# EAGLE library part DX07P024AJ1R1500 (library DX07P024AJ1R1500)
Cut Tape - Usb Type c Slim Plug
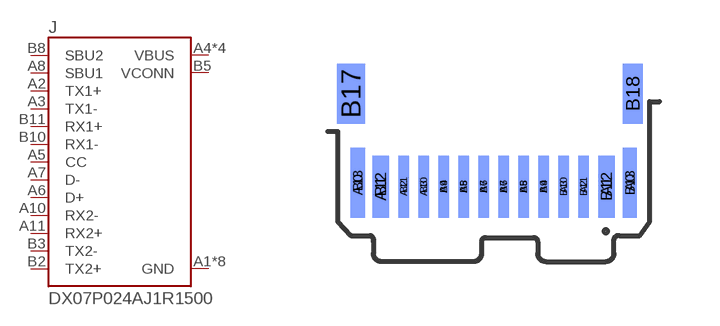
[diagram p0: symbol with the pads of JAE_DX07P024AJ1R1500; footprint JAE_DX07P024AJ1R1500]

Designator prefix J

## DX07P024AJ1R1500 (DESCRIPTION: Cut Tape - Usb Type c Slim Plug; DIGI-KEY_PART_NUMBER: 670-2868-1-ND; DIGI-KEY_PURCHASE_URL: https://www.digikey.com/product-detail/en/jae-electronics/DX07P024AJ1R1500/670-2868-1-ND/6003057?utm_source=snapeda&utm_medium=aggregator&utm_campaign=symbol; MF: JAE Electronics; MP: DX07P024AJ1R1500; PACKAGE: None)  [JAE_DX07P024AJ1R1500]
A1  GND  pwr
A2  TX1+
A3  TX1-
A4  VBUS  pwr
A5  CC
A6  D+
A7  D-
A8  SBU1
A9  VBUS  pwr
A10  RX2-
A11  RX2+
A12  GND  pwr
B0  GND  pwr
B1  GND  pwr
B2  TX2+
B3  TX2-
B4  VBUS  pwr
B5  VCONN  pwr
B8  SBU2
B9  VBUS  pwr
B10  RX1-
B11  RX1+
B12  GND  pwr
B13  GND  pwr
B17  GND  pwr
B18  GND  pwr

## Footprint JAE_DX07P024AJ1R1500 (pad centres in mm)
smd 0.36 x 1.75: A0 3.405,1.975; A13 -3.405,1.975
smd 0.41 x 1.55: A1 2.825,1.875; A12 -2.825,1.875
smd 0.26 x 1.55: A2 2.25,1.875; A3 1.75,1.875; A4 1.25,1.875; A5 0.75,1.875; A6 0.25,1.875; A7 -0.25,1.875; A8 -0.75,1.875; A9 -1.25,1.875; A10 -1.75,1.875; A11 -2.25,1.875
smd 0.36 x 1.75 bottom: B0 -3.405,1.975; B13 3.405,1.975
smd 0.41 x 1.55 bottom: B1 -2.825,1.875; B12 2.825,1.875
smd 0.26 x 1.55 bottom: B2 -2.25,1.875; B3 -1.75,1.875; B4 -1.25,1.875; B5 -0.75,1.875; B6 -0.25,1.875; B7 0.25,1.875; B8 0.75,1.875; B9 1.25,1.875; B10 1.75,1.875; B11 2.25,1.875
smd 0.7 x 1.5 bottom: B17 -3.575,4.2
smd 0.5 x 1.5 bottom: B18 3.475,4.2